# Altium schematic symbol library LM324DR.SchLib: 1 symbol
Pins are listed as number, name and electrical type; pins without a type are passive.

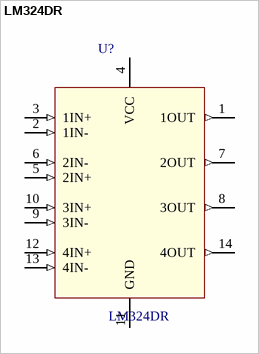
[diagram p0: symbol LM324DR]

## LM324DR
designator U?
OP Amp Quad GP Â±16V/32V 14-Pin SOIC T/R; MF: Rohm; Digi-Key_Purchase_URL: https://www.digikey.ca/product-detail/en/rohm-semiconductor/LM324DR/LM324DRRS-ND/4003944?utm_source=snapeda&utm_medium=aggregator&utm_campaign=symbol; SnapEDA_Link: https://www.snapeda.com/parts/LM324DR/Rohm/view-part/?ref=snap; Digi-Key_Part_Number: LM324DRRS-ND; Package: SOIC-14 Rohm; MP: LM324DR; Value: *
footprint SOIC127P600X175-14N
pins: 1 1OUT (out), 2 1IN- (in), 3 1IN+ (in), 4 VCC (power), 5 2IN+ (in), 6 2IN- (in), 7 2OUT (out), 8 3OUT (out), 9 3IN- (in), 10 3IN+ (in), 11 GND, 12 4IN+ (in), 13 4IN- (in), 14 4OUT (out)